# Altium schematic symbol library E220.SchLib: 1 symbol
Pins are listed as number, name and electrical type; pins without a type are passive.

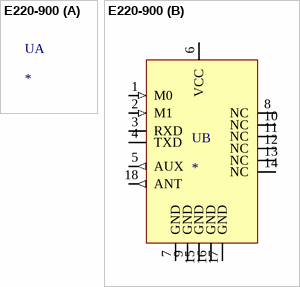
[diagram p0: symbol E220-900]

## E220-900
designator U
footprint PE220-900T30S (40.5mm*25mm*3.80mm-S)
part B pins: 1 M0 (in), 2 M1 (in), 3 RXD (io), 4 TXD (io), 5 AUX (out), 6 VCC (power), 7 GND, 8 NC, 9 GND, 10 NC, 11 NC, 12 NC, 13 NC, 14 NC, 15 GND, 16 GND, 17 GND, 18 ANT (out)